# EAGLE library part NC182M25 (library custom)
DB25 Male
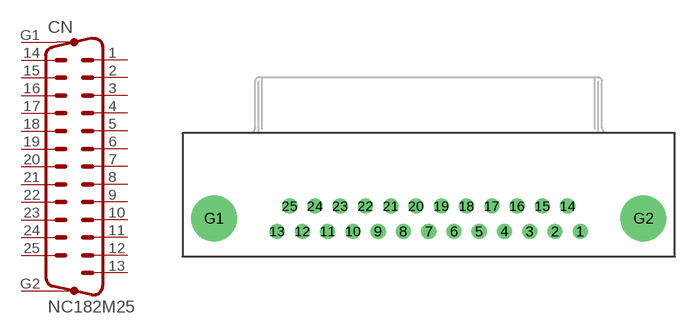
[diagram p1: symbol with the pads of NC182M25; footprint NC182M25]

Designator prefix CN

## NC182M25  [NC182M25]
1  1  pas
2  2  pas
3  3  pas
4  4  pas
5  5  pas
6  6  pas
7  7  pas
8  8  pas
9  9  pas
10  10  pas
11  11  pas
12  12  pas
13  13  pas
14  14  pas
15  15  pas
16  16  pas
17  17  pas
18  18  pas
19  19  pas
20  20  pas
21  21  pas
22  22  pas
23  23  pas
24  24  pas
25  25  pas
G1  G1  pas
G2  G2  pas

## Footprint NC182M25 (pad centres in mm)
drill 1.016 pad 1.676: 1 16.891,-2.667; 2 14.097,-2.667; 3 11.303,-2.667; 4 8.509,-2.667; 5 5.715,-2.667; 6 2.921,-2.667; 7 0.127,-2.667; 8 -2.667,-2.667; 9 -5.461,-2.667; 10 -8.255,-2.667; 11 -11.049,-2.667; 12 -13.843,-2.667; 13 -16.637,-2.667; 14 15.494,0.127; 15 12.7,0.127; 16 9.906,0.127; 17 7.112,0.127; 18 4.318,0.127; 19 1.524,0.127; 20 -1.27,0.127; 21 -4.064,0.127; 22 -6.858,0.127; 23 -9.652,0.127; 24 -12.446,0.127; 25 -15.24,0.127
drill 3.048 pad 5.08: G1 -23.622,-1.27; G2 23.876,-1.27